# Altium schematic symbol library ADL5205.SchLib: 2 symbols
Pins are listed as number, name and electrical type; pins without a type are passive.

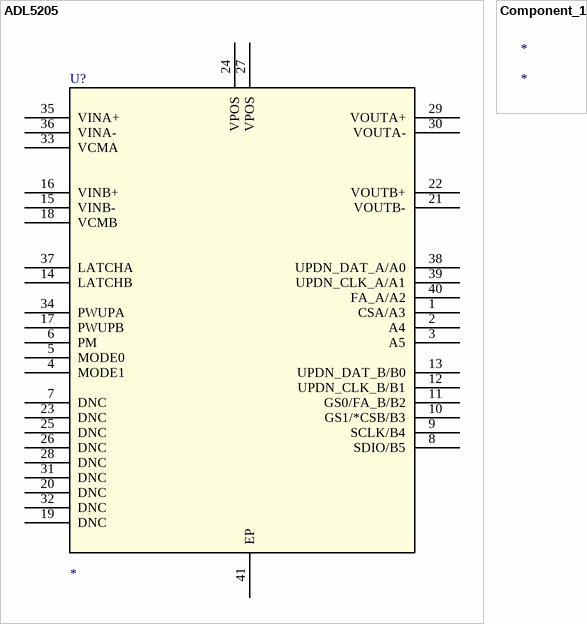
[diagram p0: symbols ADL5205 to Component_1]

## ADL5205
designator U?
Value: Value; Type: Type; RefDes: RefDes
pins: 1 CSA/A3, 2 A4, 3 A5, 4 MODE1, 5 MODE0, 6 PM, 7 DNC, 8 SDIO/B5, 9 SCLK/B4, 10 GS1/*CSB/B3, 11 GS0/FA_B/B2, 12 UPDN_CLK_B/B1, 13 UPDN_DAT_B/B0, 14 LATCHB, 15 VINB-, 16 VINB+, 17 PWUPB, 18 VCMB, 19 DNC, 20 DNC, 21 VOUTB-, 22 VOUTB+, 23 DNC, 24 VPOS, 25 DNC, 26 DNC, 27 VPOS, 28 DNC, 29 VOUTA+, 30 VOUTA-, 31 DNC, 32 DNC, 33 VCMA, 34 PWUPA, 35 VINA+, 36 VINA-, 37 LATCHA, 38 UPDN_DAT_A/A0, 39 UPDN_CLK_A/A1, 40 FA_A/A2, 41 EP

## Component_1
designator *